# Altium footprint library YakupTrkn3.PcbLib: 43 footprints (part 2 of 3)
Each footprint in its own frame and in the unit in brackets; x right, y up, seen from the top. Pads: shape width x height; smd on the part's side, far side on the other; paste and mask are expansions set on the pad; w line width, h text height; cw(c..) or ccw(c..) is an arc to the next point about the centre after c.
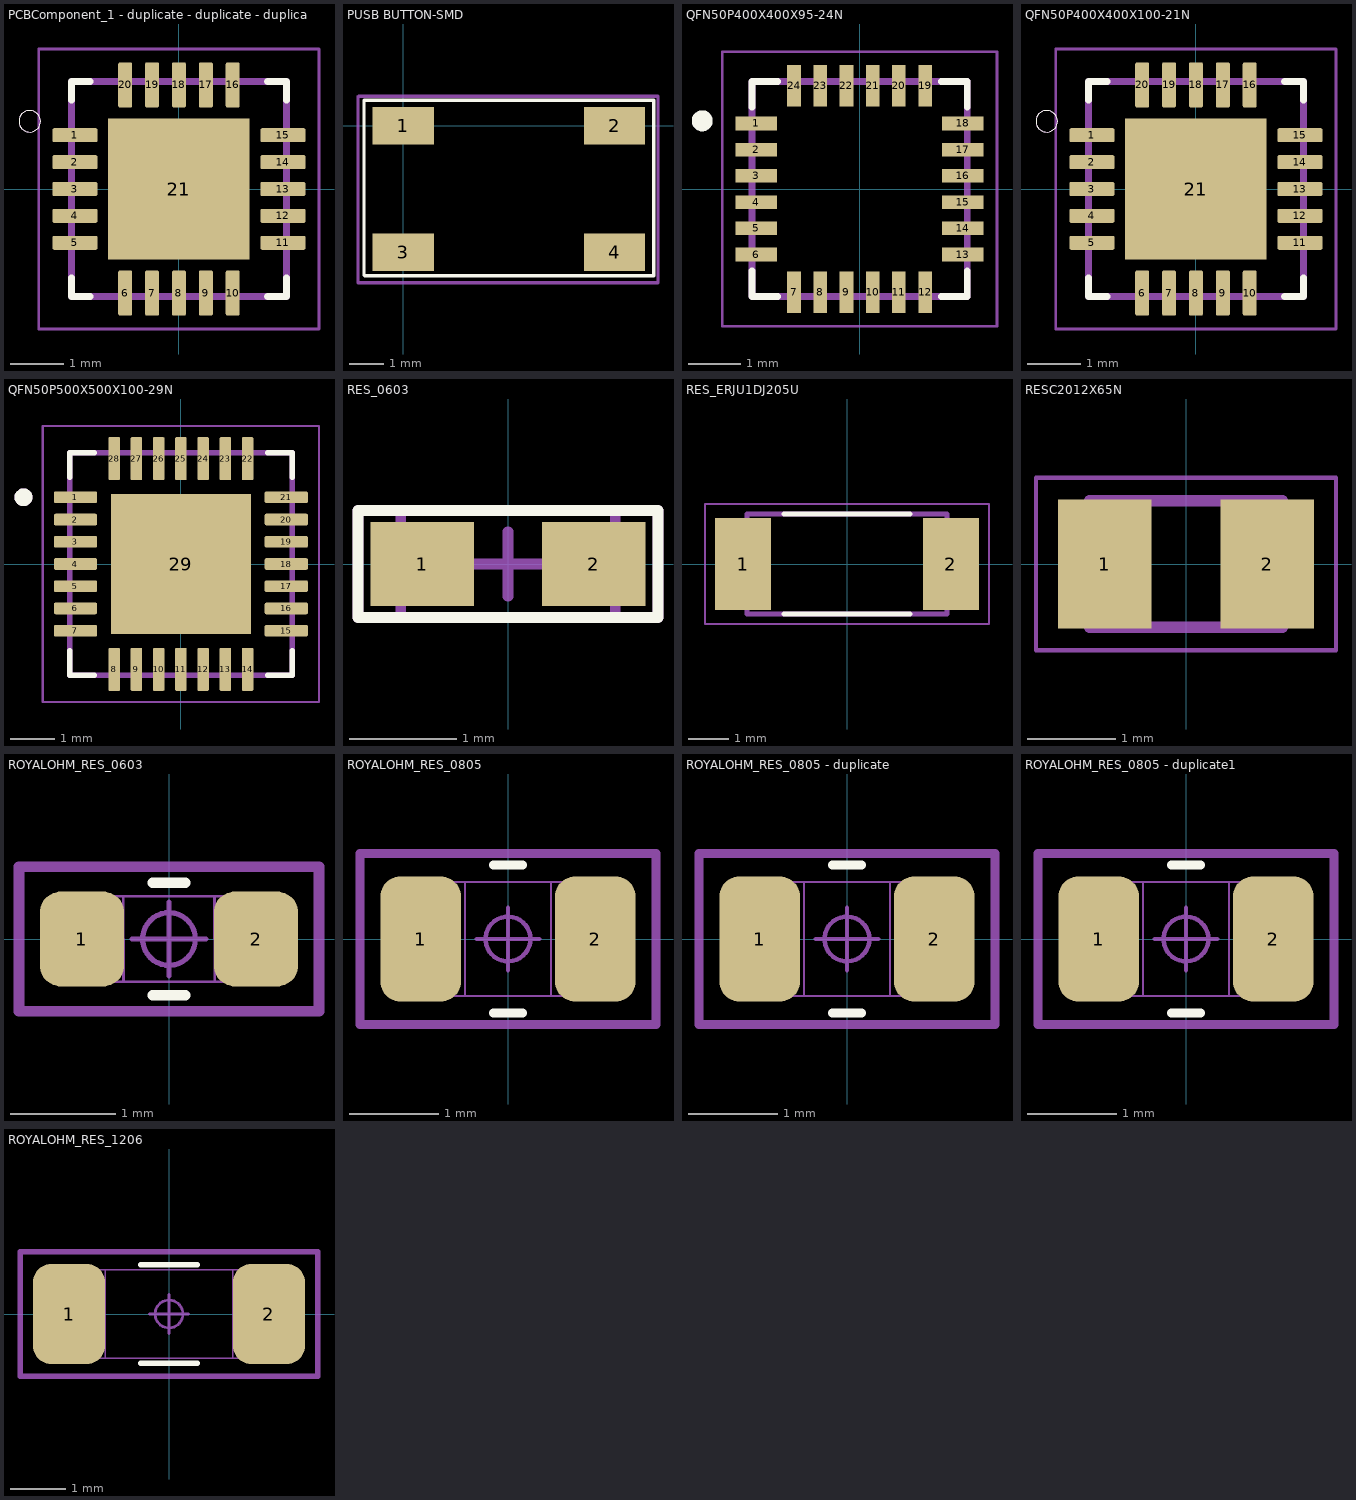
[diagram p1: the footprints below, top view; thin cyan lines are the x and y axes]

## PCBComponent_1 - duplicate3 - duplicate [mm]

## PCBComponent_1 - duplicate3 - duplicate1 [mm]

## PCBComponent_1 - duplicate - duplicate [mm]

## PCBComponent_1 - duplicate - duplicate - duplicate [mm]
pads (21):
  rrect25% 0.84x0.26 smd: 1(-1.935,1) 2(-1.935,0.5) 3(-1.935,0) 4(-1.935,-0.5) 5(-1.935,-1) 11(1.935,-1) 12(1.935,-0.5) 13(1.935,0) 14(1.935,0.5) 15(1.935,1)
  rrect25% 0.26x0.84 smd: 6(-1,-1.935) 7(-0.5,-1.935) 8(0,-1.935) 9(0.5,-1.935) 10(1,-1.935) 16(1,1.935) 17(0.5,1.935) 18(0,1.935) 19(-0.5,1.935) 20(-1,1.935)
  rect 2.63x2.63 smd paste-2: 21(0,0)
Top Overlay:
  circle w0: c-2.775,1.26 r0.2
  lines w0.127: -2,-1.65 -2,-2 -1.65,-2 ; -2,1.65 -2,2 -1.65,2 ; 1.65,-2 2,-2 2,-1.65 ; 1.65,2 2,2 2,1.65
Mechanical 13:
  circle w0: c-2.775,1.26 r0.2
  lines w0.127: -2,-2 -2,2 2,2 2,-2 -2,-2
Mechanical 15:
  lines w0.05: -2.605,-2.605 -2.605,2.605 2.605,2.605 2.605,-2.605 -2.605,-2.605
3D body "step_temp.STEP": height 0.8, standoff 0, extent -2,-2 2,2

## PUSB BUTTON-SMD [mm]
pads (4):
  rect 1.8x1.1 smd mask+0.05: 1(0,0) 2(6.2,0) 3(0,-3.7) 4(6.2,-3.7)
Top Overlay:
  lines w0.1: -1.15,-4.375 -1.15,0.75 7.35,0.75 7.35,-4.4 -1.125,-4.4
Top Component Center:
  lines w0.1: -1.325,-4.6 -1.325,0.85 -1.3,0.875 7.475,0.875 7.475,-4.6 -1.325,-4.6
3D body "User Library-4x4_SMD_Switch.step": height 1.5, standoff 0, extent -0.2,-4.5 6.2,0.7

## QFN50P400X400X95-24N [mm]
pads (24):
  rect 0.79x0.26 smd: 1(-1.97,1.25) 2(-1.97,0.75) 3(-1.97,0.25) 4(-1.97,-0.25) 5(-1.97,-0.75) 6(-1.97,-1.25) 13(1.97,-1.25) 14(1.97,-0.75) 15(1.97,-0.25) 16(1.97,0.25) 17(1.97,0.75) 18(1.97,1.25)
  rect 0.26x0.79 smd: 7(-1.25,-1.97) 8(-0.75,-1.97) 9(-0.25,-1.97) 10(0.25,-1.97) 11(0.75,-1.97) 12(1.25,-1.97) 19(1.25,1.97) 20(0.75,1.97) 21(0.25,1.97) 22(-0.25,1.97) 23(-0.75,1.97) 24(-1.25,1.97)
Top Overlay:
  circle w0.2: c-3,1.3 r0.1
  lines w0.127: -2.05,-1.56 -2.05,-2.05 -1.56,-2.05 ; -2.05,1.56 -2.05,2.05 -1.56,2.05 ; 1.56,-2.05 2.05,-2.05 2.05,-1.56 ; 1.56,2.05 2.05,2.05 2.05,1.56
Mechanical 13:
  lines w0.127: -2.05,-2.05 -2.05,2.05 2.05,2.05 2.05,-2.05 -2.05,-2.05
Mechanical 15:
  lines w0.05: -2.62,-2.62 -2.62,2.62 2.62,2.62 2.62,-2.62 -2.62,-2.62
3D body "step_temp.STEP": height 0.93, standoff -0.02, extent -2,-2 2,2

## QFN50P400X400X100-21N [mm]
pads (21):
  rrect25% 0.84x0.26 smd: 1(-1.935,1) 2(-1.935,0.5) 3(-1.935,0) 4(-1.935,-0.5) 5(-1.935,-1) 11(1.935,-1) 12(1.935,-0.5) 13(1.935,0) 14(1.935,0.5) 15(1.935,1)
  rrect25% 0.26x0.84 smd: 6(-1,-1.935) 7(-0.5,-1.935) 8(0,-1.935) 9(0.5,-1.935) 10(1,-1.935) 16(1,1.935) 17(0.5,1.935) 18(0,1.935) 19(-0.5,1.935) 20(-1,1.935)
  rect 2.63x2.63 smd paste-2: 21(0,0)
Top Overlay:
  circle w0: c-2.775,1.26 r0.2
  lines w0.127: -2,-1.65 -2,-2 -1.65,-2 ; -2,1.65 -2,2 -1.65,2 ; 1.65,-2 2,-2 2,-1.65 ; 1.65,2 2,2 2,1.65
Mechanical 13:
  circle w0: c-2.775,1.26 r0.2
  lines w0.127: -2,-2 -2,2 2,2 2,-2 -2,-2
Mechanical 15:
  lines w0.05: -2.605,-2.605 -2.605,2.605 2.605,2.605 2.605,-2.605 -2.605,-2.605
3D body "step_temp.STEP": height 0.8, standoff 0, extent -2,-2 2,2

## QFN50P500X500X100-29N [mm]
pads (29):
  rrect25% 0.97x0.26 smd: 1(-2.37,1.5) 2(-2.37,1) 3(-2.37,0.5) 4(-2.37,0) 5(-2.37,-0.5) 6(-2.37,-1) 7(-2.37,-1.5) 15(2.37,-1.5) 16(2.37,-1) 17(2.37,-0.5) 18(2.37,0) 19(2.37,0.5) 20(2.37,1) 21(2.37,1.5)
  rrect25% 0.26x0.97 smd: 8(-1.5,-2.37) 9(-1,-2.37) 10(-0.5,-2.37) 11(0,-2.37) 12(0.5,-2.37) 13(1,-2.37) 14(1.5,-2.37) 22(1.5,2.37) 23(1,2.37) 24(0.5,2.37) 25(0,2.37) 26(-0.5,2.37) 27(-1,2.37) 28(-1.5,2.37)
  rect 3.15x3.15 smd paste-575: 29(0,0)
Top Overlay:
  circle w0.2: c-3.54,1.5 r0.1
  lines w0.127: -2.5,-1.95 -2.5,-2.5 -1.95,-2.5 ; -2.5,1.95 -2.5,2.5 -1.95,2.5 ; 1.95,-2.5 2.5,-2.5 2.5,-1.95 ; 1.95,2.5 2.5,2.5 2.5,1.95
Mechanical 13:
  circle w0.2: c-3.54,1.5 r0.1
  lines w0.127: -2.5,-2.5 -2.5,2.5 2.5,2.5 2.5,-2.5 -2.5,-2.5
Mechanical 15:
  lines w0.05: -3.105,-3.105 -3.105,3.105 3.105,3.105 3.105,-3.105 -3.105,-3.105
3D body "step_temp.STEP": height 1, standoff 0, extent -2.5,-2.5 2.5,2.5

## RES_0603 [mil]
pads (2):
  rect 38x31 smd mask+1.97: 1(-31.5,0) 2(31.5,0)
Top Overlay:
  lines w3.94: -55.12,-19.68 -55.12,19.68 55.12,19.68 55.12,-19.68 -55.12,-19.68
Top 3D Body:
  lines w3.94: -39.37,-19.68 39.37,-19.68 39.37,19.68 -39.37,19.68 -39.37,-19.68
Top Component Center:
  lines w3.94: -11.81,0 11.81,0 ; 0,-11.81 0,11.81 ; -55.12,-19.68 -55.12,19.68 55.12,19.68 55.12,-19.68 -55.12,-19.68
Top Designator:
  lines w3.94: -55.12,-19.68 -55.12,19.68 55.12,19.68 55.12,-19.68 -55.12,-19.68
  text ".Designator" at -39.37,-9.19 h19.68
3D body "0603S1.STEP": height 16.89, standoff -0.83, extent -38.92,-18.87 38.92,19.69

## RES_ERJU1DJ205U [mm]
pads (2):
  rect 1.4x2.3 smd: 1(-2.6,0) 2(2.6,0)
Top Overlay:
  lines w0.127: -1.58,-1.25 1.58,-1.25 ; -1.58,1.25 1.58,1.25
Mechanical 13:
  lines w0.127: -2.5,-1.25 -2.5,1.25 2.5,1.25 2.5,-1.25 -2.5,-1.25
Mechanical 15:
  lines w0.05: -3.55,-1.5 -3.55,1.5 3.55,1.5 3.55,-1.5 -3.55,-1.5
3D body "step_temp.STEP": height 0.6, standoff 0, extent -2.5,-1.25 2.5,1.25

## RESC2012X65N [mm]
pads (2):
  rect 1.06x1.47 smd: 1(-0.925,0) 2(0.925,0)
Mechanical 13:
  lines w0.127: -1.1,-0.72 1.1,-0.72 1.1,0.72 -1.1,0.72 -1.1,-0.72
Mechanical 15:
  lines w0.05: -1.708,-0.983 1.708,-0.983 1.708,0.983 -1.708,0.983 -1.708,-0.983
3D body "step_temp.STEP": height 0.65, standoff 0, extent -1,-0.625 1,0.625

## ROYALOHM_RES_0603 [mm]
pads (2):
  rrect50% 0.8x0.9 smd paste+0 mask+0.04: 1(-0.825,0) 2(0.825,0)
Top Overlay:
  lines w0.1: -0.152,-0.533 0.152,-0.533 ; -0.152,0.533 0.152,0.533
Mechanical 13:
  lines w0.025: -0.432,0.406 -0.432,-0.394 ; 0.432,0.394 0.432,-0.406 ; -0.813,-0.406 -0.813,0.406 0.813,0.406 0.813,-0.406 -0.813,-0.406
Mechanical 15:
  circle w0.05: c0,0 r0.25
  lines w0.05: -0.35,0 0.35,0 ; 0,-0.35 0,0.35
  lines w0.1: -1.422,-0.686 1.422,-0.686 1.422,0.686 -1.422,0.686 -1.422,-0.686
3D body "RES 0603.STEP": height 0.45, standoff 0, extent -0.8,-0.4 0.8,0.4

## ROYALOHM_RES_0805 [mm]
pads (2):
  rrect50% 0.9x1.397 smd paste+0 mask+0.04: 1(-0.975,0) 2(0.975,0)
Top Overlay:
  lines w0.1: -0.162,-0.826 0.162,-0.826 ; -0.162,0.826 0.162,0.826
Mechanical 13:
  lines w0.025: -0.48,-0.635 -0.48,0.635 ; 0.48,-0.635 0.48,0.635 ; -1.016,-0.635 1.016,-0.635 1.016,0.635 -1.016,0.635 -1.016,-0.635
Mechanical 15:
  circle w0.05: c0,0 r0.25
  lines w0.05: -0.35,0 0.35,0 ; 0,-0.35 0,0.35
  lines w0.1: -1.65,-0.953 -1.65,0.953 1.65,0.953 1.65,-0.953 -1.65,-0.953
3D body "RES 0805.STEP": height 0.6, standoff 0, extent -1,-0.625 1,0.625

## ROYALOHM_RES_0805 - duplicate [mm]
pads (2):
  rrect50% 0.9x1.397 smd paste+0 mask+0.04: 1(-0.975,0) 2(0.975,0)
Top Overlay:
  lines w0.1: -0.162,-0.826 0.162,-0.826 ; -0.162,0.826 0.162,0.826
Mechanical 13:
  lines w0.025: -0.48,-0.635 -0.48,0.635 ; 0.48,-0.635 0.48,0.635 ; -1.016,-0.635 1.016,-0.635 1.016,0.635 -1.016,0.635 -1.016,-0.635
Mechanical 15:
  circle w0.05: c0,0 r0.25
  lines w0.05: -0.35,0 0.35,0 ; 0,-0.35 0,0.35
  lines w0.1: -1.65,-0.953 -1.65,0.953 1.65,0.953 1.65,-0.953 -1.65,-0.953
3D body "RES 0805.STEP": height 0.6, standoff 0, extent -1,-0.625 1,0.625

## ROYALOHM_RES_0805 - duplicate1 [mm]
pads (2):
  rrect50% 0.9x1.397 smd paste+0 mask+0.04: 1(-0.975,0) 2(0.975,0)
Top Overlay:
  lines w0.1: -0.162,-0.826 0.162,-0.826 ; -0.162,0.826 0.162,0.826
Mechanical 13:
  lines w0.025: -0.48,-0.635 -0.48,0.635 ; 0.48,-0.635 0.48,0.635 ; -1.016,-0.635 -1.016,0.635 1.016,0.635 1.016,-0.635 -1.016,-0.635
Mechanical 15:
  circle w0.05: c0,0 r0.25
  lines w0.05: -0.35,0 0.35,0 ; 0,-0.35 0,0.35
  lines w0.1: -1.65,-0.953 1.65,-0.953 1.65,0.953 -1.65,0.953 -1.65,-0.953
3D body "RES 0805.STEP": height 0.6, standoff 0, extent -1,-0.625 1,0.625

## ROYALOHM_RES_1206 [mm]
pads (2):
  rrect50% 1.3x1.8 smd paste+0 mask+0.04: 1(-1.8,0) 2(1.8,0)
Top Overlay:
  lines w0.1: -0.508,-0.889 0.508,-0.889 ; -0.508,0.889 0.508,0.889
Mechanical 13:
  lines w0.025: -1.15,-0.8 -1.15,0.8 ; 1.15,-0.8 1.15,0.8 ; -1.6,-0.8 -1.6,0.8 1.6,0.8 1.6,-0.8 -1.6,-0.8
Mechanical 15:
  circle w0.05: c0,0 r0.25
  lines w0.05: -0.35,0 0.35,0 ; 0,-0.35 0,0.35
  lines w0.1: -2.675,-1.118 2.675,-1.118 2.675,1.118 -2.675,1.118 -2.675,-1.118
3D body "RES 1206.STEP": height 0.6, standoff 0, extent -1.6,-0.8 1.6,0.8